# Altium schematic symbol library MCP73832.SchLib: 1 symbol
Pins are listed as number, name and electrical type; pins without a type are passive.

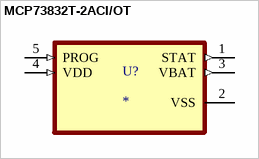
[diagram p0: symbol MCP73832T-2ACI/OT]

## MCP73832T-2ACI/OT
designator U?
Linear Battery Charger Controller Li-Ion/Li-Pol 505mA 4.2V 5-Pin SOT-23 T/R; MP: MCP73832T-2ACI/OT; MF: Microchip Technology; SnapEDA_Link: https://www.snapeda.com/parts/MCP73832T-2ACI/OT/Microchip/view-part/?ref=snap; Package: SOT-23-5 Microchip; Check_prices: https://www.snapeda.com/parts/MCP73832T-2ACI/OT/Microchip/view-part/?ref=eda; Purchase-URL: https://pricing.snapeda.com/search/part/MCP73832T-2ACI/OT/?ref=eda; Price: None; Value: *; Availability: In Stock
footprint SOT95P270X145-5N
pins: 1 STAT (out), 2 VSS (power), 3 VBAT (out), 4 VDD (in), 5 PROG (in)